# EAGLE library part SIM-340DZ (library canivete)
Módulo GSM/GPRS
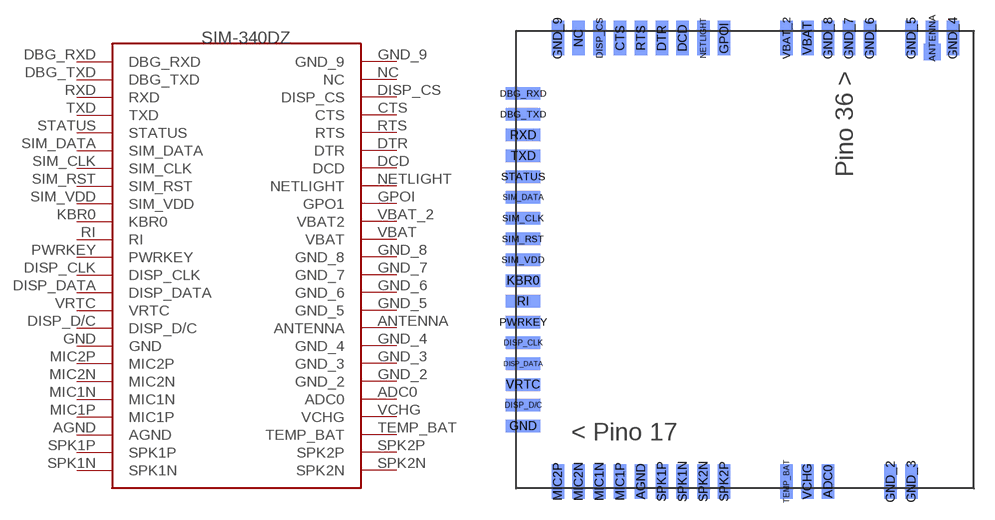
[diagram p0: symbol with the pads of SIM-340DZ; footprint SIM-340DZ]

Designator prefix -

## SIM-340DZ  [SIM-340DZ]
ADC0  ADC0  in
AGND  AGND  pwr
ANTENNA  ANTENNA
CTS  CTS  out
DBG_RXD  DBG_RXD  in
DBG_TXD  DBG_TXD  out
DCD  DCD  out
DISP_CLK  DISP_CLK  out
DISP_CS  DISP_CS  out
DISP_D/C  DISP_D/C  out
DISP_DATA  DISP_DATA
DTR  DTR  in
GND  GND  pwr
GND_2  GND_2  pwr
GND_3  GND_3  pwr
GND_4  GND_4  pwr
GND_5  GND_5  pwr
GND_6  GND_6  pwr
GND_7  GND_7  pwr
GND_8  GND_8  pwr
GND_9  GND_9  pwr
GPOI  GPO1  out
KBR0  KBR0  in
MIC1N  MIC1N  in
MIC1P  MIC1P  in
MIC2N  MIC2N  in
MIC2P  MIC2P  in
NC  NC  nc
NETLIGHT  NETLIGHT
PWRKEY  PWRKEY  in
RI  RI  out
RTS  RTS  in
RXD  RXD  in
SIM_CLK  SIM_CLK  out
SIM_DATA  SIM_DATA
SIM_RST  SIM_RST  out
SIM_VDD  SIM_VDD  out
SPK1N  SPK1N  out
SPK1P  SPK1P  out
SPK2N  SPK2N  out
SPK2P  SPK2P  out
STATUS  STATUS  out
TEMP_BAT  TEMP_BAT  in
TXD  TXD  out
VBAT  VBAT  pwr
VBAT_2  VBAT2  pwr
VCHG  VCHG  in
VRTC  VRTC

## Footprint SIM-340DZ (pad centres in mm)
Módulo GSM/GPRS
smd 0.9 x 2.5 bottom: ADC0 5.82,-15.65; AGND -7.68,-15.65; ANTENNA 13.32,16.35; CTS -9.18,16.35; DCD -4.68,16.35; DISP_CS -10.68,16.35; DTR -6.18,16.35; GND_2 10.32,-15.65; GND_3 11.82,-15.65; GND_4 14.82,16.35; GND_5 11.82,16.35; GND_6 8.82,16.35; GND_7 7.32,16.35; GND_8 5.82,16.35; GND_9 -13.68,16.35; GPOI -1.68,16.35; MIC1N -10.68,-15.65; MIC1P -9.18,-15.65; MIC2N -12.18,-15.65; MIC2P -13.68,-15.65; NC -12.18,16.35; NETLIGHT -3.18,16.35; RTS -7.68,16.35; SPK1N -4.68,-15.65; SPK1P -6.18,-15.65; SPK2N -3.18,-15.65; SPK2P -1.68,-15.65; TEMP_BAT 2.82,-15.65; VBAT 4.32,16.35; VBAT_2 2.82,16.35; VCHG 4.32,-15.65
smd 2.5 x 0.9 bottom: DBG_RXD -16.18,12.35; DBG_TXD -16.18,10.85; DISP_CLK -16.18,-5.65; DISP_D/C -16.18,-10.15; DISP_DATA -16.18,-7.15; GND -16.18,-11.65; KBR0 -16.18,-1.15; PWRKEY -16.18,-4.15; RI -16.18,-2.65; RXD -16.18,9.35; SIM_CLK -16.18,3.35; SIM_DATA -16.18,4.85; SIM_RST -16.18,1.85; SIM_VDD -16.18,0.35; STATUS -16.18,6.35; TXD -16.18,7.85; VRTC -16.18,-8.65
smd 1.2 x 1.2 bottom:  13.32,15.35